# Altium schematic symbol library ALCT_MEZ_SPARTAN6_Library.SchLib: 214 symbols (part 7 of 7)
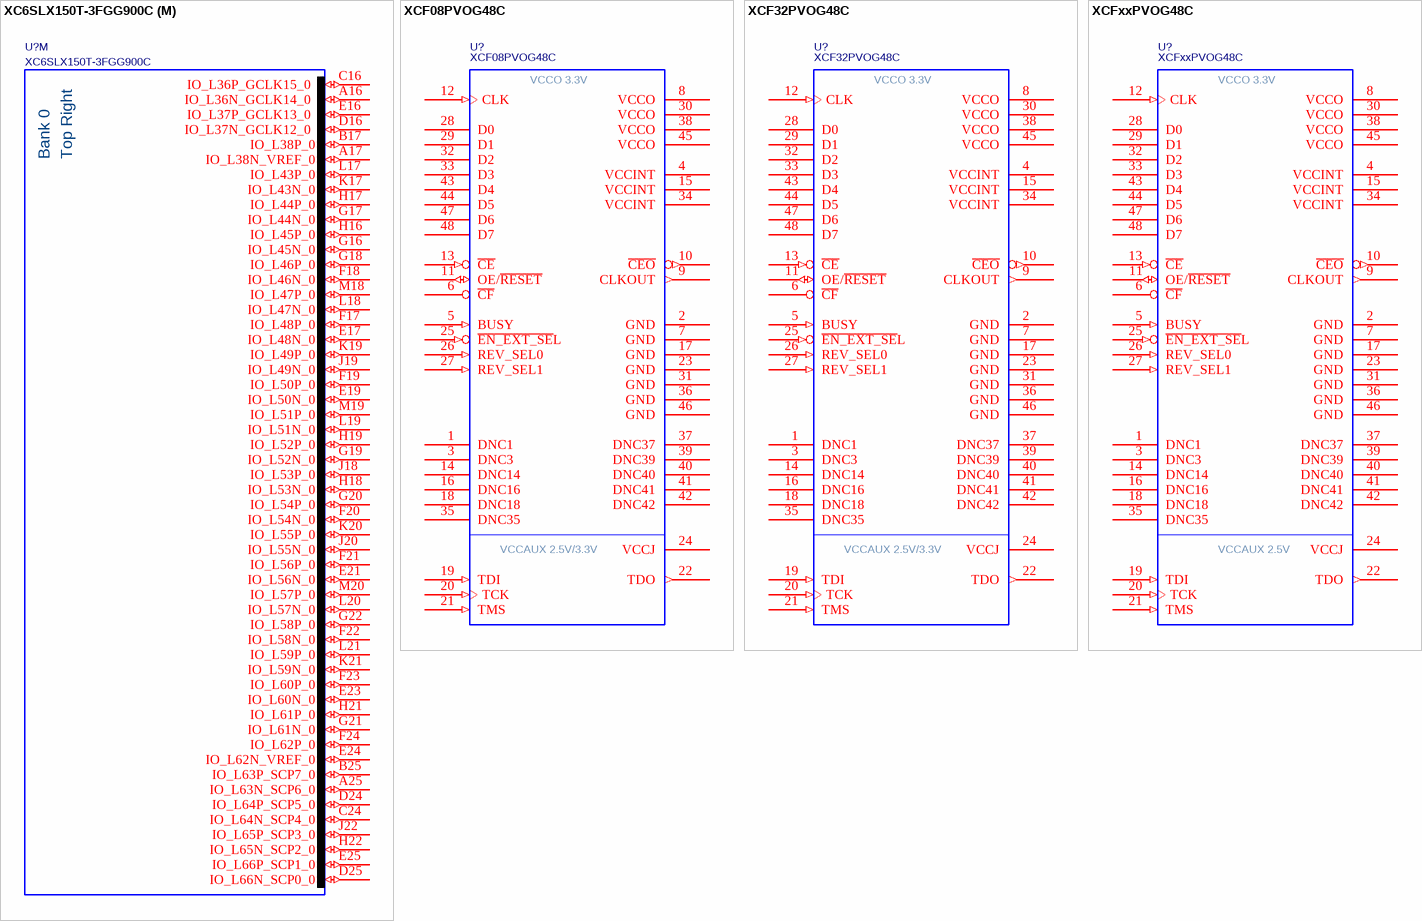
[diagram p26: symbols XC6SLX150T-3FGG900C to XCFxxPVOG48C]

## XC6SLX150T-3FGG900C
designator U?
Spartan-6 LXT 1.2V FPGA, 540 User I/Os, 900-Ball Chip-Scale BGA (1.0mm Pitch), Speed Grade 3, Commercial Grade, Pb-Free; Manufacturer: Xilinx Inc.; Number of I/O: 540; Voltage - Supply: 1.14 V ~ 1.26 V; DatasheetVersion: ver1.6, Nov-2010; PackageVersion: ver1.4, Nov-2009; PackageReference: FGG900; PackageDescription: 900-Ball Fine-Pitch Ball Grid Array (FGG900) - Pb-Free; Code_JEDEC: MS-034-AAN-1; Code_IPC: BGA100P30X30-900; ComponentLink1Description: Manufacturer URL; ComponentLink1URL: http://www.xilinx.com/; ComponentLink2Description: Spartan-6 Datasheet; ComponentLink2URL: http://www.xilinx.com/support/documentation/data_sheets/ds160.pdf; ComponentLink3Description: Spartan-6 Documents; ComponentLink3URL: http://www.xilinx.com/support/documentation/spartan-6.htm; Supplier 1: Digi-Key; Manufacturer Part Number: XC6SLX150T-3FGG900C; RoHS: RoHS Compliant; Category: Integrated Circuits (ICs); Stock 1: 0; Pricing 1: 27=287.3 (USD); Part Status: Active; Mounting Type: Surface Mount; Operating Temperature: 0°C ~ 85°C (TJ); Package / Case: 900-BBGA; Supplier Device Package: 900-FBGA (31x31); ComponentLink4URL: http://www.xilinx.com/support/documentation/data_sheets/ds162.pdf; ComponentLink4Description: http://www.xilinx.com/support/documentation/data_sheets/ds162.pdf; Supplier Part Number 1: XC6SLX150T-3FGG900C-ND
footprint MC_S6/BGA/FGG900
part A pins: A6 IO_L8N_VREF_0 (io), A7 IO_L13N_0 (io), A15 IO_L35N_GCLK16_0 (io), B6 IO_L8P_0 (io), B7 IO_L13P_0 (io), B15 IO_L35P_GCLK17_0 (io), C6 IO_L4N_0 (io), C8 IO_L12N_0 (io), D6 IO_L4P_0 (io), D7 IO_L6N_0 (io), D8 IO_L12P_0 (io), E6 IO_L2N_0 (io), E7 IO_L6P_0 (io), E8 IO_L10N_0 (io), E9 IO_L16N_0 (io), E11 IO_L18N_0 (io), E13 IO_L24N_0 (io), E15 IO_L33N_0 (io), F6 IO_L2P_0 (io), F8 IO_L10P_0 (io), F9 IO_L16P_0 (io), F10 IO_L14N_0 (io), F11 IO_L18P_0 (io), F12 IO_L22N_0 (io), F13 IO_L24P_0 (io), F14 IO_L26N_0 (io), F15 IO_L33P_0 (io), G7 IO_L5N_0 (io), G9 IO_L1N_VREF_0 (io), G10 IO_L14P_0 (io), G11 IO_L20N_0 (io), G12 IO_L22P_0 (io), G14 IO_L26P_0 (io), G15 IO_L34N_GCLK18_0 (io), H7 IO_L5P_0 (io), H8 IO_L3N_0 (io), H11 IO_L20P_0 (io), H12 IO_L17N_0 (io), H13 IO_L19N_0 (io), H14 IO_L32N_0 (io), H15 IO_L34P_GCLK19_0 (io), J8 IO_L3P_0 (io), J10 IO_L9N_0 (io), J12 IO_L17P_0 (io), J13 IO_L19P_0 (io), J14 IO_L32P_0 (io), K10 IO_L9P_0 (io), K11 IO_L11N_0 (io), K12 IO_L15N_0 (io), K14 IO_L23N_0 (io), K15 IO_L25N_0 (io), L10 IO_L7N_0 (io), L11 IO_L11P_0 (io), L12 IO_L15P_0 (io), L13 IO_L21N_0 (io), L14 IO_L23P_0 (io), M10 IO_L7P_0 (io), M13 IO_L21P_0 (io), M15 IO_L25P_0 (io)
part B pins: AB28 IO_L42P_GCLK7_M1UDM_1 (io), AB30 IO_L42N_GCLK6_TRDY1_M1LDM_1 (io), AC27 IO_L49P_M1DQ10_1 (io), AC28 IO_L49N_M1DQ11_1 (io), AC29 IO_L50P_M1UDQS_1 (io), AC30 IO_L50N_M1UDQSN_1 (io), AD26 IO_L67P_1 (io), AD27 IO_L67N_1 (io), AD28 IO_L48P_HDC_M1DQ8_1 (io), AD30 IO_L48N_M1DQ9_1 (io), AE25 IO_L71P_1 (io), AE26 IO_L71N_1 (io), AE27 IO_L52P_M1DQ14_1 (io), AE28 IO_L52N_M1DQ15_1 (io), AE29 IO_L51P_M1DQ12_1 (io), AE30 IO_L51N_M1DQ13_1 (io), AF28 IO_L55P_1 (io), AF30 IO_L55N_1 (io), AG26 IO_L73P_1 (io), AG27 IO_L65P_1 (io), AG28 IO_L65N_1 (io), AG29 IO_L57P_1 (io), AG30 IO_L57N_1 (io), AH26 IO_L73N_1 (io), AH27 IO_L69P_1 (io), AH30 IO_L59P_1 (io), AJ28 IO_L63P_1 (io), AJ29 IO_L61P_1 (io), AJ30 IO_L59N_1 (io), AK27 IO_L69N_VREF_1 (io), AK28 IO_L63N_1 (io), AK29 IO_L61N_1 (io), M23 IO_L28P_1 (io), M24 IO_L28N_VREF_1 (io), P22 IO_L56P_1 (io), P23 IO_L56N_1 (io), P24 IO_L58P_1 (io), P25 IO_L58N_1 (io), R21 IO_L54P_1 (io), R22 IO_L54N_1 (io), R24 IO_L60P_1 (io), R25 IO_L60N_1 (io), T24 IO_L62P_1 (io), T25 IO_L62N_1 (io), U24 IO_L64P_1 (io), U25 IO_L64N_1 (io), V23 IO_L66P_1 (io), V24 IO_L66N_1 (io), V26 IO_L40P_GCLK11_M1A5_1 (io), V27 IO_L40N_GCLK10_M1A6_1 (io), V28 IO_L39P_M1A3_1 (io), V30 IO_L39N_M1ODT_1 (io), W21 IO_L68P_1 (io), W22 IO_L68N_1 (io), W24 IO_L53P_1 (io), W25 IO_L53N_VREF_1 (io), W27 IO_L41P_GCLK9_IRDY1_M1RASN_1 (io), W28 IO_L41N_GCLK8_M1CASN_1 (io), W29 IO_L43P_GCLK5_M1DQ4_1 (io), W30 IO_L43N_GCLK4_M1DQ5_1 (io), Y22 IO_L70P_1 (io), Y23 IO_L70N_1 (io), Y24 IO_L72P_1 (io), Y25 IO_L72N_1 (io), Y27 IO_L47N_LDC_M1DQ1_1 (io)
part C pins: AA11 IO_L58P_2 (io), AA14 IO_L42N_2 (io), AA15 IO_L46N_2 (io), AA17 IO_L33N_2 (io), AA18 IO_L16P_2 (io), AA19 IO_L20P_2 (io), AA21 IO_L10N_2 (io), AA22 IO_L6P_2 (io), AB9 IO_L60N_2 (io), AB10 IO_L60P_2 (io), AB11 IO_L58N_2 (io), AB12 IO_L54P_2 (io), AB14 IO_L40P_2 (io), AB16 IO_L50N_2 (io), AB17 IO_L23P_2 (io), AB18 IO_L16N_VREF_2 (io), AB19 IO_L20N_2 (io), AB21 IO_L8P_2 (io), AB23 IO_L4P_2 (io), AC9 IO_L61P_2 (io), AC11 IO_L51P_2 (io), AC12 IO_L54N_2 (io), AC14 IO_L40N_2 (io), AC15 IO_L44P_2 (io), AC16 IO_L29P_GCLK3_2 (io), AC19 IO_L14P_D11_2 (io), AC21 IO_L8N_2 (io), AC22 IO_L6N_2 (io), AC23 IO_L4N_VREF_2 (io), AC24 IO_L2P_CMPCLK_2 (io), AD8 IO_L63P_2 (io), AD9 IO_L61N_VREF_2 (io), AD10 IO_L53P_2 (io), AD11 IO_L51N_2 (io), AD12 IO_L45P_2 (io), AD14 IO_L41P_2 (io), AD15 IO_L44N_2 (io), AD16 IO_L29N_GCLK2_2 (io), AD17 IO_L23N_2 (io), AD18 IO_L21P_2 (io), AD19 IO_L14N_D12_2 (io), AD20 IO_L17P_2 (io), AD22 IO_L9P_2 (io), AD24 IO_L2N_CMPMOSI_2 (io), AE8 IO_L63N_2 (io), AE9 IO_L57P_2 (io), AE10 IO_L53N_2 (io), AE12 IO_L45N_2 (io), AE13 IO_L47P_2 (io), AE14 IO_L41N_VREF_2 (io), AE15 IO_L43P_2 (io), AE17 IO_L28P_2 (io), AE18 IO_L21N_2 (io), AE19 IO_L19P_2 (io), AE20 IO_L17N_2 (io), AE21 IO_L15P_2 (io), AE22 IO_L9N_2 (io), AE23 IO_L7P_2 (io), AE24 IO_L5P_2 (io), AF7 IO_L59P_2 (io), AF9 IO_L57N_2 (io), AF13 IO_L47N_2 (io), AF15 IO_L43N_2 (io), AF16 IO_L30P_GCLK1_D13_2 (io), AF17 IO_L28N_2 (io), AF19 IO_L19N_2 (io), AF21 IO_L15N_2 (io), AF23 IO_L7N_2 (io), AF24 IO_L5N_2 (io), AF25 IO_L11P_2 (io), AG6 IO_L64P_D8_2 (io), AG7 IO_L59N_2 (io), AG8 IO_L55P_2 (io), AG16 IO_L30N_GCLK0_USERCCLK_2 (io), AG25 IO_L11N_2 (io), AH6 IO_L64N_D9_2 (io), AH8 IO_L55N_2 (io), AH16 IO_L31P_GCLK31_D14_2 (io), AH24 IO_L13N_D10_2 (io), AJ15 IO_L34P_2 (io), AJ17 IO_L32P_GCLK29_2 (io), AK15 IO_L34N_2 (io), AK16 IO_L31N_GCLK30_D15_2 (io), AK17 IO_L32N_GCLK28_2 (io), W12 IO_L56P_2 (io), W14 IO_L52P_2 (io), W19 IO_L22P_2 (io), W20 IO_L18P_2 (io), Y12 IO_L56N_2 (io), Y13 IO_L52N_2 (io), Y14 IO_L42P_2 (io), Y15 IO_L46P_2 (io), Y16 IO_L50P_2 (io), Y17 IO_L33P_2 (io), Y19 IO_L22N_2 (io), Y20 IO_L18N_2 (io), Y21 IO_L10P_2 (io)
part D pins: AA1 IO_L41N_GCLK26_M3DQ5_3 (io), AA3 IO_L41P_GCLK27_M3DQ4_3 (io), AA4 IO_L39N_M3LDQSN_3 (io), AA5 IO_L39P_M3LDQS_3 (io), AA6 IO_L8N_3 (io), AA7 IO_L8P_3 (io), AA9 IO_L1N_VREF_3 (io), AA10 IO_L1P_3 (io), AB1 IO_L42N_GCLK24_M3LDM_3 (io), AB2 IO_L42P_GCLK25_TRDY2_M3UDM_3 (io), AB3 IO_L34N_M3UDQSN_3 (io), AB4 IO_L34P_M3UDQS_3 (io), AB6 IO_L12N_3 (io), AB7 IO_L12P_3 (io), AC1 IO_L36N_M3DQ9_3 (io), AC3 IO_L36P_M3DQ8_3 (io), AC4 IO_L32N_M3DQ15_3 (io), AC5 IO_L32P_M3DQ14_3 (io), AC6 IO_L9P_3 (io), AD1 IO_L35N_M3DQ11_3 (io), AD2 IO_L35P_M3DQ10_3 (io), AD3 IO_L33N_M3DQ13_3 (io), AD4 IO_L33P_M3DQ12_3 (io), AD6 IO_L9N_3 (io), AD7 IO_L2P_3 (io), AE1 IO_L30N_3 (io), AE3 IO_L30P_3 (io), AE4 IO_L19P_3 (io), AE5 IO_L6P_3 (io), AE6 IO_L4P_3 (io), AE7 IO_L2N_3 (io), AF1 IO_L28P_3 (io), AF2 IO_L26P_3 (io), AF3 IO_L20P_3 (io), AF4 IO_L19N_3 (io), AF6 IO_L4N_3 (io), AG1 IO_L28N_3 (io), AG3 IO_L20N_3 (io), AG4 IO_L24P_3 (io), AG5 IO_L6N_3 (io), AH1 IO_L22P_3 (io), AH2 IO_L26N_3 (io), AH3 IO_L16P_3 (io), AH4 IO_L24N_3 (io), AH5 IO_L10P_3 (io), AJ1 IO_L22N_3 (io), AJ2 IO_L18P_3 (io), AJ4 IO_L14P_3 (io), AK2 IO_L18N_3 (io), AK3 IO_L16N_3 (io), AK4 IO_L14N_3 (io), AK5 IO_L10N_3 (io), N7 IO_L31N_VREF_3 (io), N8 IO_L31P_3 (io), N9 IO_L25N_3 (io), N10 IO_L25P_3 (io), R6 IO_L27N_3 (io), R7 IO_L27P_3 (io), T6 IO_L7N_3 (io), T7 IO_L7P_3 (io), T8 IO_L15N_3 (io), T9 IO_L15P_3 (io), U6 IO_L29N_3 (io), U7 IO_L29P_3 (io), V7 IO_L21N_3 (io), V8 IO_L21P_3 (io), V9 IO_L23N_3 (io), V10 IO_L23P_3 (io), W1 IO_L40N_M3DQ7_3 (io), W3 IO_L40P_M3DQ6_3 (io), W6 IO_L13N_3 (io), W7 IO_L13P_3 (io), W9 IO_L11N_3 (io), W10 IO_L11P_3 (io), W11 IO_L5P_3 (io), Y1 IO_L38N_M3DQ3_3 (io), Y2 IO_L38P_M3DQ2_3 (io), Y3 IO_L37N_M3DQ1_3 (io), Y4 IO_L37P_M3DQ0_3 (io), Y6 IO_L17N_VREF_3 (io), Y7 IO_L17P_3 (io), Y8 IO_L3N_3 (io), Y9 IO_L3P_3 (io), Y11 IO_L5N_3 (io)
part E pins: A2 IO_L79N_M4A9_4 (io), A3 IO_L76N_M4A2_4 (io), A4 IO_L80N_M4A12_4 (io), A5 IO_L82N_M4A14_4 (io), B1 IO_L70N_M4CASN_4 (io), B2 IO_L79P_M4A8_4 (io), B3 IO_L76P_M4A7_4 (io), B5 IO_L82P_M4A13_4 (io), C1 IO_L70P_M4RASN_4 (io), C4 IO_L80P_M4CKE_4 (io), C5 IO_L78N_M4A4_4 (io), D1 IO_L75N_M4BA1_4 (io), D2 IO_L75P_M4BA0_4 (io), D3 IO_L74N_M4A1_4 (io), D4 IO_L74P_M4A0_4 (io), D5 IO_L78P_M4A10_4 (io), E1 IO_L73N_M4CLKN_4 (io), E3 IO_L73P_M4CLK_4 (io), E4 IO_L72N_M4ODT_4 (io), E5 IO_L72P_M4A3_4 (io), F1 IO_L71N_M4A6_4 (io), F2 IO_L71P_M4A5_4 (io), F3 IO_L77N_M4BA2_4 (io), F4 IO_L77P_M4WE_4 (io), G1 IO_L68N_M4DQ5_4 (io), G3 IO_L68P_M4DQ4_4 (io), G4 IO_L81N_M4A11_4 (io), G5 IO_L81P_M4RESET_4 (io), H1 IO_L67N_M4DQ7_4 (io), H2 IO_L67P_M4DQ6_4 (io), H3 IO_L64N_M4DQ1_4 (io), H4 IO_L64P_M4DQ0_4 (io), H6 IO_L83N_VREF_4 (io), J1 IO_L65N_M4DQ3_4 (io), J3 IO_L65P_M4DQ2_4 (io), J4 IO_L66N_M4LDQSN_4 (io), J5 IO_L66P_M4LDQS_4 (io), J6 IO_L83P_4 (io), K1 IO_L61N_M4UDQSN_4 (io), K2 IO_L61P_M4UDQS_4 (io), K3 IO_L69N_M4LDM_4 (io), K4 IO_L69P_M4UDM_4 (io), L1 IO_L60N_M4DQ13_4 (io), L3 IO_L60P_M4DQ12_4 (io), L4 IO_L62N_M4DQ11_4 (io), L5 IO_L62P_M4DQ10_4 (io), L6 IO_L58N_VREF_4 (io), L7 IO_L58P_4 (io), M1 IO_L59N_M4DQ15_4 (io), M2 IO_L59P_M4DQ14_4 (io), M3 IO_L63N_M4DQ9_4 (io), M4 IO_L63P_M4DQ8_4 (io)
part F pins: A26 IO_L3N_M5A11_5 (io), A27 IO_L5N_M5A9_5 (io), A28 IO_L2P_M5A13_5 (io), A29 IO_L2N_M5A14_5 (io), B27 IO_L5P_M5A8_5 (io), B29 IO_L4P_M5CKE_5 (io), B30 IO_L4N_M5A12_5 (io), C26 IO_L3P_M5RESET_5 (io), C27 IO_L9N_M5BA1_5 (io), C29 IO_L8P_M5A7_5 (io), C30 IO_L8N_M5A2_5 (io), D26 IO_L7N_M5BA2_5 (io), D27 IO_L9P_M5BA0_5 (io), D28 IO_L10P_M5A0_5 (io), D30 IO_L10N_M5A1_5 (io), E26 IO_L7P_M5WE_5 (io), E27 IO_L11P_M5CLK_5 (io), E28 IO_L11N_M5CLKN_5 (io), E29 IO_L12P_M5A3_5 (io), E30 IO_L12N_M5ODT_5 (io), F26 IO_L6P_M5A10_5 (io), F27 IO_L6N_M5A4_5 (io), F28 IO_L17P_M5DQ6_5 (io), F30 IO_L17N_M5DQ7_5 (io), G27 IO_L16P_M5DQ4_5 (io), G28 IO_L16N_M5DQ5_5 (io), G29 IO_L19P_M5DQ2_5 (io), G30 IO_L19N_M5DQ3_5 (io), H26 IO_L13P_M5A5_5 (io), H27 IO_L13N_M5A6_5 (io), H28 IO_L20P_M5DQ0_5 (io), H30 IO_L20N_M5DQ1_5 (io), J27 IO_L15P_M5UDM_5 (io), J28 IO_L15N_M5LDM_5 (io), J29 IO_L18P_M5LDQS_5 (io), J30 IO_L18N_M5LDQSN_5 (io), K26 IO_L14P_M5RASN_5 (io), K27 IO_L14N_M5CASN_5 (io), K28 IO_L23P_M5UDQS_5 (io), K30 IO_L23N_M5UDQSN_5 (io), L24 IO_L27P_5 (io), L25 IO_L27N_5 (io), L27 IO_L21P_M5DQ8_5 (io), L28 IO_L21N_M5DQ9_5 (io), L29 IO_L22P_M5DQ10_5 (io), L30 IO_L22N_M5DQ11_5 (io), M26 IO_L24P_M5DQ12_5 (io), M27 IO_L24N_M5DQ13_5 (io), M28 IO_L25P_M5DQ14_5 (io), M30 IO_L25N_M5DQ15_5 (io), N24 IO_L26P_5 (io), N25 IO_L26N_VREF_5 (io)
part G pins: A9 MGTTXN0_101 (out), A10 MGTAVTTTX_101 (power), A11 MGTTXN1_101 (out), A13 MGTREFCLK0N_101 (in), A19 MGTREFCLK1N_123 (in), A21 MGTTXN0_123 (out), A22 MGTAVTTTX_123 (power), A23 MGTTXN1_123 (out), AF12 MGTRREF_245 (in), AF14 MGTAVTTRCAL_245 (power), AG10 MGTRXP0_245 (in), AG11 MGTAVTTRX_245 (power), AG12 MGTRXP1_245 (in), AG14 MGTREFCLK1P_245 (in), AG18 MGTREFCLK0P_267 (in), AG20 MGTRXP0_267 (in), AG21 MGTAVTTRX_267 (power), AG22 MGTRXP1_267 (in), AH10 MGTRXN0_245 (in), AH12 MGTRXN1_245 (in), AH13 MGTAVCC_245 (power), AH14 MGTREFCLK1N_245 (in), AH15 MGTAVCCPLL1_245 (power), AH17 MGTAVCCPLL0_267 (power), AH18 MGTREFCLK0N_267 (in), AH19 MGTAVCC_267 (power), AH20 MGTRXN0_267 (in), AH22 MGTRXN1_267 (in), AJ9 MGTTXP0_245 (out), AJ11 MGTTXP1_245 (out), AJ13 MGTREFCLK0P_245 (in), AJ14 MGTAVCCPLL0_245 (power), AJ18 MGTAVCCPLL1_267 (power), AJ19 MGTREFCLK1P_267 (in), AJ21 MGTTXP0_267 (out), AJ23 MGTTXP1_267 (out), AK9 MGTTXN0_245 (out), AK10 MGTAVTTTX_245 (power), AK11 MGTTXN1_245 (out), AK13 MGTREFCLK0N_245 (in), AK19 MGTREFCLK1N_267 (in), AK21 MGTTXN0_267 (out), AK22 MGTAVTTTX_267 (power), AK23 MGTTXN1_267 (out), B9 MGTTXP0_101 (out), B11 MGTTXP1_101 (out), B13 MGTREFCLK0P_101 (in), B14 MGTAVCCPLL0_101 (power), B18 MGTAVCCPLL1_123 (power), B19 MGTREFCLK1P_123 (in), B21 MGTTXP0_123 (out), B23 MGTTXP1_123 (out), C10 MGTRXN0_101 (in), C12 MGTRXN1_101 (in), C13 MGTAVCC_101 (power), C14 MGTREFCLK1N_101 (in), C15 MGTAVCCPLL1_101 (power), C17 MGTAVCCPLL0_123 (power), C18 MGTREFCLK0N_123 (in), C19 MGTAVCC_123 (power), C20 MGTRXN0_123 (in), C22 MGTRXN1_123 (in), D10 MGTRXP0_101 (in), D11 MGTAVTTRX_101 (power), D12 MGTRXP1_101 (in), D14 MGTREFCLK1P_101 (in), D18 MGTREFCLK0P_123 (in), D20 MGTRXP0_123 (in), D21 MGTAVTTRX_123 (power), D22 MGTRXP1_123 (in), E12 MGTRREF_101 (in), E14 MGTAVTTRCAL_101 (power)
part H pins: AA24 IO_L74P_AWAKE_1 (io), AB8 PROGRAM_B_2 (in), AB13 IO_L48P_D7_2 (io), AB20 IO_L12P_D1_MISO2_2 (io), AB25 SUSPEND (in), AB26 VBATT (power), AB27 RFUSE (in), AC13 IO_L48N_RDWR_B_VREF_2 (io), AC20 IO_L12N_D2_MISO3_2 (io), AC25 CMPCS_B_2 (in), AD25 DONE_2 (io), AE11 IO_L49P_D3_2 (io), AF11 IO_L49N_D4_2 (io), AF27 VFS (in), AG24 IO_L13P_M1_2 (io), AH7 IO_L62P_D5_2 (io), AJ6 IO_L65P_INIT_B_2 (io), AJ25 IO_L3P_D0_DIN_MISO_MISO1_2 (io), AJ26 IO_L1P_CCLK_2 (io), AK7 IO_L62N_D6_2 (io), AK25 IO_L3N_MOSI_CSI_B_MISO0_2 (io), AK26 IO_L1N_M0_CMPMISO_2 (io), H9 IO_L1P_HSWAPEN_0 (io), H23 TCK (in), H25 TDO (out), J24 TDI (in), K25 TMS (in)
part I pins: AA8 VCCO_3 (power), AA12 VCCO_2 (power), AA16 VCCO_2 (power), AA20 VCCO_2 (power), AA23 VCCO_1 (power), AB24 VCCAUX (power), AC2 VCCO_3 (power), AC7 VCCAUX (power), AC10 VCCO_2 (power), AC18 VCCO_2 (power), AC26 VCCO_1 (power), AD5 VCCO_3 (power), AD13 VCCO_2 (power), AD21 VCCO_2 (power), AD23 VCCO_2 (power), AD29 VCCO_1 (power), AE16 VCCO_2 (power), AF8 VCCO_2 (power), AG2 VCCO_3 (power), AG9 VCCAUX (power), AG23 VCCAUX (power), AH25 VCCO_2 (power), AH29 VCCO_1 (power), AJ3 VCCO_3 (power), AJ7 VCCO_2 (power), AJ16 VCCO_2 (power), AJ27 VCCO_1 (power), B4 VCCO_4 (power), B16 VCCO_0 (power), B28 VCCO_5 (power), C2 VCCO_4 (power), C7 VCCO_0 (power), C25 VCCO_0 (power), D9 VCCAUX (power), D23 VCCAUX (power), D29 VCCO_5 (power), F16 VCCO_0 (power), G2 VCCO_4 (power), G6 VCCAUX (power), G8 VCCO_0 (power), G13 VCCO_0 (power), G23 VCCO_0 (power), G26 VCCO_5 (power), H5 VCCO_4 (power), H10 VCCO_0 (power), H20 VCCO_0 (power), H24 VCCAUX (power), H29 VCCO_5 (power), J7 VCCAUX (power), J9 VCCAUX (power), J15 VCCAUX (power), J17 VCCO_0 (power), J23 VCCAUX (power), J25 VCCO_5 (power), K6 VCCO_4 (power), K13 VCCO_0 (power), K24 VCCO_5 (power), L2 VCCO_4 (power), L9 VCCO_0 (power), L15 VCCO_0 (power), L22 VCCAUX (power), L26 VCCO_5 (power), M5 VCCO_4 (power), M8 VCCO_3 (power), M11 VCCAUX (power), M14 VCCAUX (power), M17 VCCO_0 (power), M21 VCCO_0 (power), M25 VCCAUX (power), M29 VCCO_5 (power), N6 VCCAUX (power), N11 VCCINT (power), N12 VCCINT (power), N15 VCCINT (power), N16 VCCINT (power), N19 VCCINT (power), N20 VCCINT (power), N23 VCCO_1 (power), P9 VCCO_3 (power), P11 VCCINT (power), P12 VCCINT (power), P15 VCCINT (power), P16 VCCINT (power), P19 VCCINT (power), P21 VCCO_1 (power), R2 VCCO_3 (power), R8 VCCO_3 (power), R10 VCCAUX (power), R13 VCCINT (power), R14 VCCINT (power), R17 VCCINT (power), R18 VCCINT (power), R23 VCCO_1 (power), R26 VCCO_1 (power), T5 VCCO_3 (power), T13 VCCINT (power), T14 VCCINT (power), T17 VCCINT (power), T18 VCCINT (power), T21 VCCAUX (power), T29 VCCO_1 (power), U8 VCCO_3 (power), U10 VCCAUX (power), U11 VCCINT (power), U12 VCCINT (power), U15 VCCINT (power), U16 VCCINT (power), U19 VCCINT (power), U20 VCCINT (power), U23 VCCO_1 (power), V6 VCCAUX (power), V11 VCCINT (power), V12 VCCINT (power), V15 VCCINT (power), V16 VCCINT (power), V19 VCCINT (power), V20 VCCINT (power), V21 VCCAUX (power), V25 VCCAUX (power), W2 VCCO_3 (power), W13 VCCAUX (power), W15 VCCAUX (power), W17 VCCAUX (power), W23 VCCO_1 (power), W26 VCCO_1 (power), Y5 VCCO_3 (power), Y10 VCCO_3 (power), Y18 VCCAUX (power), Y29 VCCO_1 (power)
part J pins: A1 GND (power), A8 GND (power), A12 GND (power), A14 GND (power), A18 GND (power), A20 GND (power), A24 GND (power), A30 GND (power), AA2 GND (power), AA13 GND (power), AA26 GND (power), AB5 GND (power), AB15 GND (power), AB22 GND (power), AB29 GND (power), AC8 GND (power), AC17 GND (power), AE2 GND (power), AF5 GND (power), AF10 GND (power), AF18 GND (power), AF20 GND (power), AF22 GND (power), AF26 GND (power), AF29 GND (power), AG13 GND (power), AG15 GND (power), AG17 GND (power), AG19 GND (power), AH9 GND (power), AH11 GND (power), AH21 GND (power), AH23 GND (power), AH28 GND (power), AJ5 GND (power), AJ8 GND (power), AJ10 GND (power), AJ12 GND (power), AJ20 GND (power), AJ22 GND (power), AJ24 GND (power), AK1 GND (power), AK8 GND (power), AK12 GND (power), AK14 GND (power), AK18 GND (power), AK20 GND (power), AK24 GND (power), AK30 GND (power), B8 GND (power), B10 GND (power), B12 GND (power), B20 GND (power), B22 GND (power), B24 GND (power), B26 GND (power), C3 GND (power), C9 GND (power), C11 GND (power), C21 GND (power), C23 GND (power), C28 GND (power), D13 GND (power), D15 GND (power), D17 GND (power), D19 GND (power), E2 GND (power), E10 GND (power), E18 GND (power), E20 GND (power), E22 GND (power), F5 GND (power), F7 GND (power), F29 GND (power), G24 GND (power), J2 GND (power), J11 GND (power), J16 GND (power), J21 GND (power), J26 GND (power), K5 GND (power), K7 GND (power), K8 GND (power), K9 GND (power), K16 GND (power), K18 GND (power), K22 GND (power), K23 GND (power), K29 GND (power), L8 GND (power), L16 GND (power), L23 GND (power), M9 GND (power), M12 GND (power), M16 GND (power), M22 GND (power), N2 GND (power), N13 GND (power), N14 GND (power), N17 GND (power), N18 GND (power), N21 GND (power), N22 GND (power), N26 GND (power), P5 GND (power), P8 GND (power), P10 GND (power), P13 GND (power), P14 GND (power), P17 GND (power), P18 GND (power), P20 GND (power), P29 GND (power), R9 GND (power), R11 GND (power), R12 GND (power), R15 GND (power), R16 GND (power), R19 GND (power), R20 GND (power), T10 GND (power), T11 GND (power), T12 GND (power), T15 GND (power), T16 GND (power), T19 GND (power), T20 GND (power), T22 GND (power), T23 GND (power), U2 GND (power), U9 GND (power), U13 GND (power), U14 GND (power), U17 GND (power), U18 GND (power), U21 GND (power), U22 GND (power), U26 GND (power), V5 GND (power), V13 GND (power), V14 GND (power), V17 GND (power), V18 GND (power), V22 GND (power), V29 GND (power), W8 GND (power), W16 GND (power), W18 GND (power)
part K pins: AA25 IO_L74N_DOUT_BUSY_1 (io), AA27 IO_L46P_FCS_B_M1DQ2_1 (io), AA28 IO_L46N_FOE_B_M1DQ3_1 (io), AA29 IO_L45P_A1_M1LDQS_1 (out), AA30 IO_L45N_A0_M1LDQSN_1 (out), AK6 IO_L65N_CSO_B_2 (io), F25 IO_L1N_A24_VREF_5 (out), G25 IO_L1P_A25_5 (out), N27 IO_L30P_A21_M1RESET_1 (out), N28 IO_L30N_A20_M1A11_1 (out), N29 IO_L29P_A23_M1A13_1 (out), N30 IO_L29N_A22_M1A14_1 (out), P26 IO_L32P_A17_M1A8_1 (out), P27 IO_L32N_A16_M1A9_1 (out), P28 IO_L31P_A19_M1CKE_1 (out), P30 IO_L31N_A18_M1A12_1 (out), R27 IO_L34P_A13_M1WE_1 (out), R28 IO_L34N_A12_M1BA2_1 (out), R29 IO_L33P_A15_M1A10_1 (out), R30 IO_L33N_A14_M1A4_1 (out), T26 IO_L35P_A11_M1A7_1 (out), T27 IO_L35N_A10_M1A2_1 (out), T28 IO_L36P_A9_M1BA0_1 (out), T30 IO_L36N_A8_M1BA1_1 (out), U27 IO_L38P_A5_M1CLK_1 (out), U28 IO_L38N_A4_M1CLKN_1 (out), U29 IO_L37P_A7_M1A0_1 (out), U30 IO_L37N_A6_M1A1_1 (out), Y26 IO_L47P_FWE_B_M1DQ0_1 (io), Y28 IO_L44P_A3_M1DQ6_1 (out), Y30 IO_L44N_A2_M1DQ7_1 (out)
part L pins: M6 IO_L57N_VREF_3 (io), M7 IO_L57P_3 (io), N1 IO_L55N_M3A14_3 (io), N3 IO_L55P_M3A13_3 (io), N4 IO_L53N_M3A12_3 (io), N5 IO_L53P_M3CKE_3 (io), P1 IO_L54N_M3A11_3 (io), P2 IO_L54P_M3RESET_3 (io), P3 IO_L52N_M3A9_3 (io), P4 IO_L52P_M3A8_3 (io), P6 IO_L56N_3 (io), P7 IO_L56P_3 (io), R1 IO_L51N_M3A4_3 (io), R3 IO_L51P_M3A10_3 (io), R4 IO_L50N_M3BA2_3 (io), R5 IO_L50P_M3WE_3 (io), T1 IO_L49N_M3A2_3 (io), T2 IO_L49P_M3A7_3 (io), T3 IO_L48N_M3BA1_3 (io), T4 IO_L48P_M3BA0_3 (io), U1 IO_L47N_M3A1_3 (io), U3 IO_L47P_M3A0_3 (io), U4 IO_L46N_M3CLKN_3 (io), U5 IO_L46P_M3CLK_3 (io), V1 IO_L45N_M3ODT_3 (io), V2 IO_L45P_M3A3_3 (io), V3 IO_L44N_GCLK20_M3A6_3 (io), V4 IO_L44P_GCLK21_M3A5_3 (io), W4 IO_L43N_GCLK22_IRDY2_M3CASN_3 (io), W5 IO_L43P_GCLK23_M3RASN_3 (io)
part M pins: A16 IO_L36N_GCLK14_0 (io), A17 IO_L38N_VREF_0 (io), A25 IO_L63N_SCP6_0 (io), B17 IO_L38P_0 (io), B25 IO_L63P_SCP7_0 (io), C16 IO_L36P_GCLK15_0 (io), C24 IO_L64N_SCP4_0 (io), D16 IO_L37N_GCLK12_0 (io), D24 IO_L64P_SCP5_0 (io), D25 IO_L66N_SCP0_0 (io), E16 IO_L37P_GCLK13_0 (io), E17 IO_L48N_0 (io), E19 IO_L50N_0 (io), E21 IO_L56N_0 (io), E23 IO_L60N_0 (io), E24 IO_L62N_VREF_0 (io), E25 IO_L66P_SCP1_0 (io), F17 IO_L48P_0 (io), F18 IO_L46N_0 (io), F19 IO_L50P_0 (io), F20 IO_L54N_0 (io), F21 IO_L56P_0 (io), F22 IO_L58N_0 (io), F23 IO_L60P_0 (io), F24 IO_L62P_0 (io), G16 IO_L45N_0 (io), G17 IO_L44N_0 (io), G18 IO_L46P_0 (io), G19 IO_L52N_0 (io), G20 IO_L54P_0 (io), G21 IO_L61N_0 (io), G22 IO_L58P_0 (io), H16 IO_L45P_0 (io), H17 IO_L44P_0 (io), H18 IO_L53N_0 (io), H19 IO_L52P_0 (io), H21 IO_L61P_0 (io), H22 IO_L65N_SCP2_0 (io), J18 IO_L53P_0 (io), J19 IO_L49N_0 (io), J20 IO_L55N_0 (io), J22 IO_L65P_SCP3_0 (io), K17 IO_L43N_0 (io), K19 IO_L49P_0 (io), K20 IO_L55P_0 (io), K21 IO_L59N_0 (io), L17 IO_L43P_0 (io), L18 IO_L47N_0 (io), L19 IO_L51N_0 (io), L20 IO_L57N_0 (io), L21 IO_L59P_0 (io), M18 IO_L47P_0 (io), M19 IO_L51P_0 (io), M20 IO_L57P_0 (io)
part A text: Bank 0; Top Left
part B text: Bank 1; Right Top; Right Bottom
part C text: Bank 2; Bottom Right; Bottom Left
part D text: Bank 3; Left Bottom
part E text: Bank 4; Left Top
part F text: Bank 5; Right Top
part H text: VCCO 3.3V; VCCAUX 2.5V
part K text: Bank 1; Right Top
part L text: Bank 3; Left Top
part M text: Bank 0; Top Right

## XCF08PVOG48C
designator U?
IC PROM SRL/PAR 1.8V 08M 48TSOP; Manufacturer: Xilinx Inc.; Programmable Type: In System Programmable; Memory Size: 8Mb; Voltage - Supply: 1.65 V ~ 2 V; Supplier 1: Digi-Key; Manufacturer Part Number: XCF08PVOG48C; RoHS: RoHS Compliant; Category: Integrated Circuits (ICs); Stock 1: 978; Pricing 1: 1=12.53 (USD); Packaging: Tube; Part Status: Active; Operating Temperature: -40°C ~ 85°C; Package / Case: 48-TFSOP (0.724", 18.40mm Width); Supplier Device Package: 48-TSOP; ComponentLink1URL: http://www.xilinx.com/support/documentation/data_sheets/ds123.pdf; ComponentLink1Description: http://www.xilinx.com/support/documentation/data_sheets/ds123.pdf; Supplier Part Number 1: 122-1454-ND
ibis XCFxxP_VO48_3.3 (Model Description)
pins: 1 DNC1, 2 GND (power), 3 DNC3, 4 VCCINT (power), 5 BUSY (in), 6 ~{CF} (oc), 7 GND (power), 8 VCCO (power), 9 CLKOUT (out), 10 ~{CEO} (out), 11 OE/~{RESET} (io), 12 CLK (in), 13 ~{CE} (in), 14 DNC14, 15 VCCINT (power), 16 DNC16, 17 GND (power), 18 DNC18, 19 TDI (in), 20 TCK (in), 21 TMS (in), 22 TDO (out), 23 GND (power), 24 VCCJ (power), 25 ~{EN_EXT_SE}L (in), 26 REV_SEL0 (in), 27 REV_SEL1 (in), 28 D0 (hiz), 29 D1 (hiz), 30 VCCO (power), 31 GND (power), 32 D2 (hiz), 33 D3 (hiz), 34 VCCINT (power), 35 DNC35, 36 GND (power), 37 DNC37, 38 VCCO (power), 39 DNC39, 40 DNC40, 41 DNC41, 42 DNC42, 43 D4 (hiz), 44 D5 (hiz), 45 VCCO (power), 46 GND (power), 47 D6 (hiz), 48 D7 (hiz)
text: VCCO 3.3V; VCCAUX 2.5V/3.3V

## XCF32PVOG48C
designator U?
IC PROM SRL/PAR 1.8V 32M 48TSOP; Manufacturer: Xilinx Inc.; COMPSIDE: TOP; COMPGROUP: 0; COMPROT: 270; mfgr: Xilinx; mfgr_foot: VOG48; Programmable Type: In System Programmable; Memory Size: 32Mb; Voltage - Supply: 1.65 V ~ 2 V; mfgr_id: XCF32PVOG48C; Supplier 1: Digi-Key; Manufacturer Part Number: XCF32PVOG48C; RoHS: RoHS Compliant; Category: Integrated Circuits (ICs); Stock 1: 1063; Pricing 1: 1=27.23 (USD); Packaging: Tube; Part Status: Active; Operating Temperature: -40°C ~ 85°C; Package / Case: 48-TFSOP (0.724", 18.40mm Width); Supplier Device Package: 48-TSOP; ComponentLink1URL: http://www.xilinx.com/support/documentation/data_sheets/ds123.pdf; ComponentLink1Description: http://www.xilinx.com/support/documentation/data_sheets/ds123.pdf; Supplier Part Number 1: 122-1458-ND
footprint MC_S6/SM/VOG48
ibis XCFxxP_VO48_3.3 (Model Description)
pins: 1 DNC1, 2 GND (power), 3 DNC3, 4 VCCINT (power), 5 BUSY (in), 6 ~{CF} (oc), 7 GND (power), 8 VCCO (power), 9 CLKOUT (out), 10 ~{CEO} (out), 11 OE/~{RESET} (io), 12 CLK (in), 13 ~{CE} (in), 14 DNC14, 15 VCCINT (power), 16 DNC16, 17 GND (power), 18 DNC18, 19 TDI (in), 20 TCK (in), 21 TMS (in), 22 TDO (out), 23 GND (power), 24 VCCJ (power), 25 ~{EN_EXT_SE}L (in), 26 REV_SEL0 (in), 27 REV_SEL1 (in), 28 D0 (hiz), 29 D1 (hiz), 30 VCCO (power), 31 GND (power), 32 D2 (hiz), 33 D3 (hiz), 34 VCCINT (power), 35 DNC35, 36 GND (power), 37 DNC37, 38 VCCO (power), 39 DNC39, 40 DNC40, 41 DNC41, 42 DNC42, 43 D4 (hiz), 44 D5 (hiz), 45 VCCO (power), 46 GND (power), 47 D6 (hiz), 48 D7 (hiz)
text: VCCO 3.3V; VCCAUX 2.5V/3.3V

## XCFxxPVOG48C
designator U?
COMPSIDE: TOP; COMPGROUP: 0; COMPROT: 270; mfgr_id: XCF32PVOG48C; mfgr: Xilinx; mfgr_foot: VOG48
footprint MC_S6/SM/VOG48
ibis XCFxxP_VO48_3.3 (Model Description)
pins: 1 DNC1, 2 GND (power), 3 DNC3, 4 VCCINT (power), 5 BUSY (in), 6 ~{CF} (oc), 7 GND (power), 8 VCCO (power), 9 CLKOUT (out), 10 ~{CEO} (out), 11 OE/~{RESET} (io), 12 CLK (in), 13 ~{CE} (in), 14 DNC14, 15 VCCINT (power), 16 DNC16, 17 GND (power), 18 DNC18, 19 TDI (in), 20 TCK (in), 21 TMS (in), 22 TDO (out), 23 GND (power), 24 VCCJ (power), 25 ~{EN_EXT_SE}L (in), 26 REV_SEL0 (in), 27 REV_SEL1 (in), 28 D0 (hiz), 29 D1 (hiz), 30 VCCO (power), 31 GND (power), 32 D2 (hiz), 33 D3 (hiz), 34 VCCINT (power), 35 DNC35, 36 GND (power), 37 DNC37, 38 VCCO (power), 39 DNC39, 40 DNC40, 41 DNC41, 42 DNC42, 43 D4 (hiz), 44 D5 (hiz), 45 VCCO (power), 46 GND (power), 47 D6 (hiz), 48 D7 (hiz)
text: VCCO 3.3V; VCCAUX 2.5V